# Altium schematic symbol library CNCLib.SchLib: 60 symbols
Pins are listed as number, name and electrical type; pins without a type are passive.

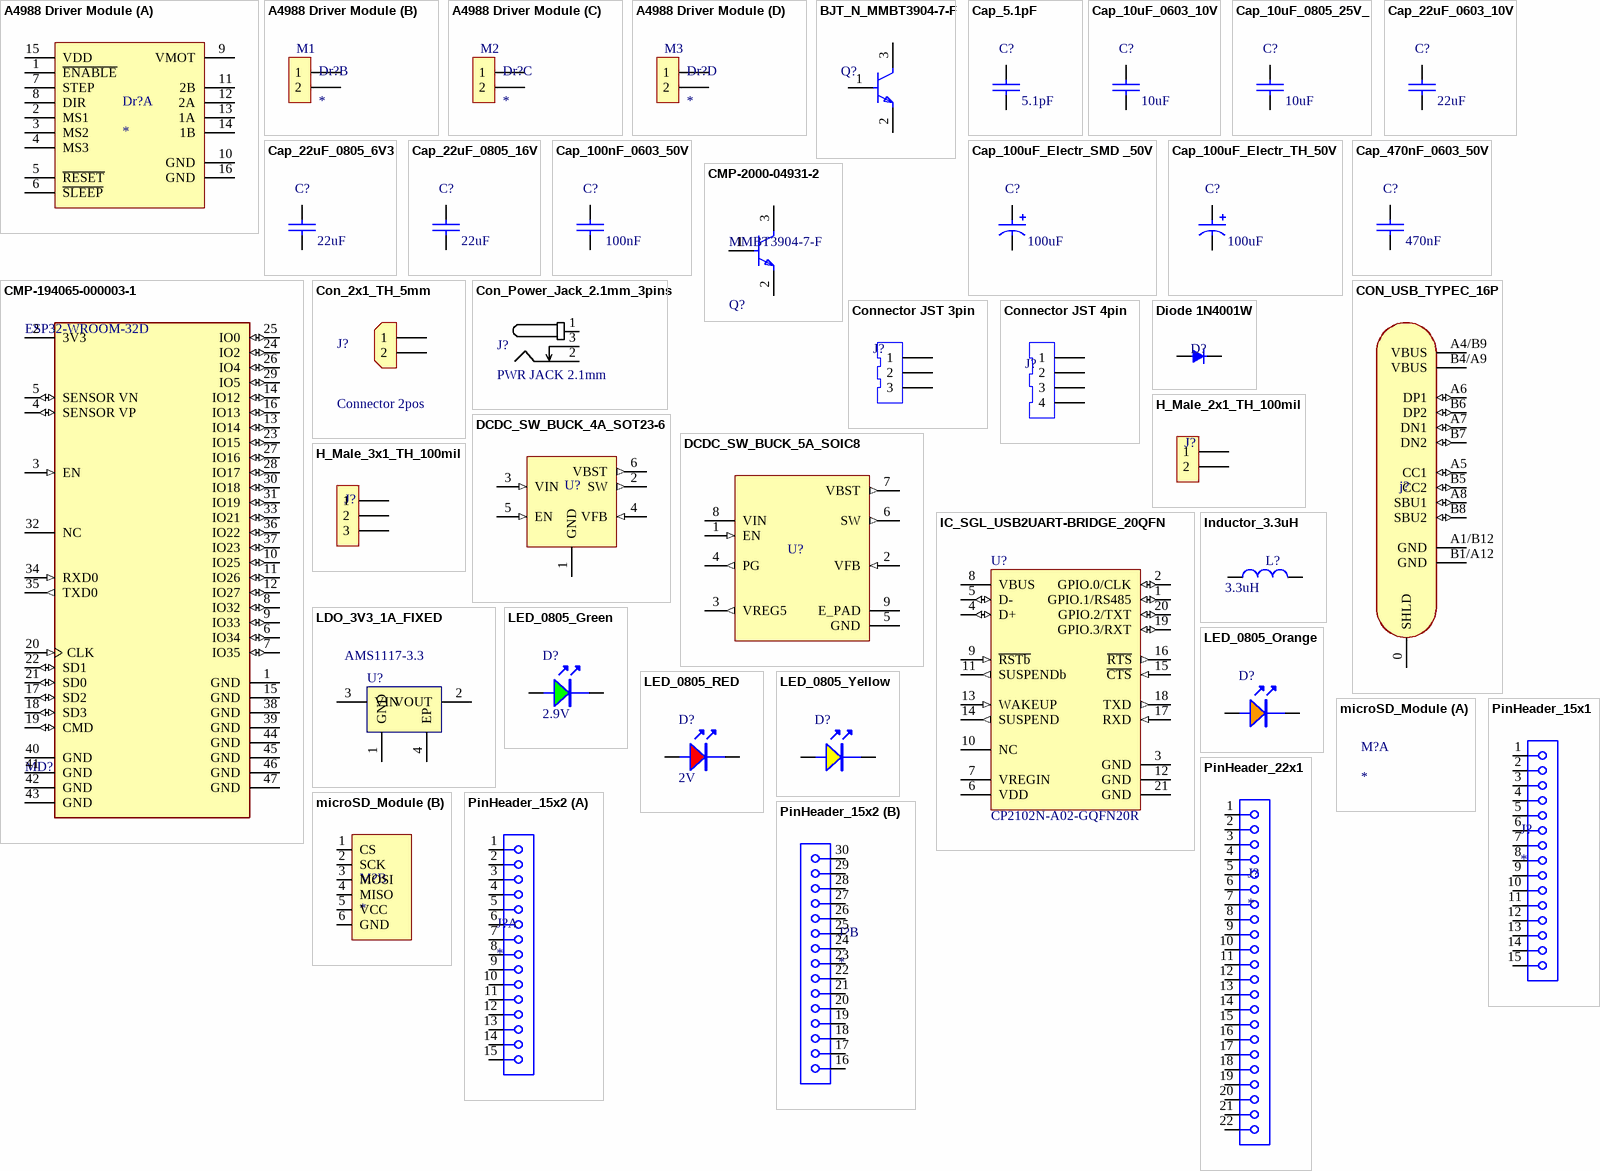
[diagram p0: symbols A4988 Driver Module to PinHeader_22x1]

## A4988 Driver Module
designator Dr?
footprint A4988 Module
part A pins: 1 ~{ENABLE}, 2 MS1, 3 MS2, 4 MS3, 5 ~{RESET}, 6 ~{SLEEP}, 7 STEP, 8 DIR, 9 VMOT, 10 GND, 11 2B, 12 2A, 13 1A, 14 1B, 15 VDD, 16 GND
part B pins: 17 1, 18 2
part C pins: 19 1, 20 2
part D pins: 21 1, 22 2
part B text: M1
part C text: M2
part D text: M3

## BJT_N_MMBT3904-7-F
designator Q?, comment TRANS NPN 40V 200mA SOT-23  (value not drawn)
40V 310mW 200mA NPN SOT-23 Single Bipolar Transistors RoHS; Manufacturer: DIODES; Manufacturer Part Number: MMBT3904-7-F; Supplier 1: LCSC; Supplier Part Number 1: C94514; ComponentLink1Description: LCSC; ComponentLink1URL: https://www.lcsc.com/product-detail/C94514.html?s_z=n_MMBT3904-7-F
footprint SOT_23_3
pins: 1 B, 2 E, 3 C

## Cap_5.1pF
designator C?, comment value 5.1pF  (hidden comment: CAP CER 5.1pF 50V NP0 0603)
50V 5.1pF NP0 0603 Ceramic Capacitors RoHS; Manufacturer: YAGEO; Manufacturer Part Number: CC0603CRNPO9BN5R1; Supplier 1: LCSC; Supplier Part Number 1: C519376; ComponentLink1Description: LCSC; ComponentLink1URL: https://www.lcsc.com/product-detail/C519376.html?s_z=n_5.1pF%2520capacitor
footprint 0603_cap
pins: 1, 2

## Cap_10uF_0603_10V
designator C?, comment value 10uF  (hidden comment: 10uF 10V)
10V 10uF X5R ±10% 0603 Multilayer Ceramic Capacitors MLCC - SMD/SMT ROHS; Manufacturer: CCTC; Manufacturer Part Number: TCC0603X5R106K100CT; Supplier 1: LCSC; Supplier Part Number 1: C380314; ComponentLink1Description: LCSC; ComponentLink1URL: https://www.lcsc.com/product-detail/Multilayer-Ceramic-Capacitors-MLCC-SMD-SMT_CCTC-TCC0603X5R106K100CT_C380314.html
footprint 0603_cap
pins: 1, 2

## Cap_10uF_0805_25V_
designator C?, comment value 10uF  (hidden comment: 10uF 25V)
25V 10uF X5R ±10% 0805 Multilayer Ceramic Capacitors MLCC - SMD/SMT ROHS; Manufacturer: Samsung Electro-Mechanics; Manufacturer Part Number: CL21A106KAYNNNE; Supplier 1: LCSC; Supplier Part Number 1: C15850; ComponentLink1Description: LCSC; ComponentLink1URL: https://lcsc.com/product-detail/Multilayer-Ceramic-Capacitors-MLCC-SMD-SMT_Samsung-Electro-Mechanics-CL21A106KAYNNNE_C15850.html
footprint 0805_cap
pins: 1, 2

## Cap_22uF_0603_10V
designator C?, comment value 22uF  (hidden comment: 22uF 10V)
10V 22uF X5R ±20% 0603 Multilayer Ceramic Capacitors MLCC - SMD/SMT ROHS; Manufacturer: HRE; Manufacturer Part Number: CGA0603X5R226M100JT; Supplier 1: LCSC; Supplier Part Number 1: C6119863; ComponentLink1Description: LCSC; ComponentLink1URL: https://lcsc.com/product-detail/Multilayer-Ceramic-Capacitors-MLCC-SMD-SMT_HRE-CGA0603X5R226M100JT_C6119863.html
footprint 0603_cap
pins: 1, 2

## Cap_22uF_0805_6V3
designator C?, comment value 22uF  (hidden comment: 22uF 6V3)
6.3V 22uF X5R ±20% 0805 Multilayer Ceramic Capacitors MLCC - SMD/SMT ROHS; Manufacturer: Samsung Electro-Mechanics; Manufacturer Part Number: CL21A226MQQNNNE; Supplier 1: LCSC; Supplier Part Number 1: C5674; ComponentLink1Description: LCSC; ComponentLink1URL: https://www.lcsc.com/product-detail/Multilayer-Ceramic-Capacitors-MLCC-SMD-SMT_Samsung-Electro-Mechanics-CL21A226MQQNNNE_C5674.html
footprint 0805_cap
pins: 1, 2

## Cap_22uF_0805_16V
designator C?, comment value 22uF  (hidden comment: 22uF 16V)
16V 22uF X5R ±20% 0805 Multilayer Ceramic Capacitors MLCC - SMD/SMT ROHS; Manufacturer: Chinocera; Manufacturer Part Number: HGC0805R5226M160NSLJ; Supplier 1: LCSC; Supplier Part Number 1: C33546008; ComponentLink1Description: LCSC; ComponentLink1URL: https://lcsc.com/product-detail/Multilayer-Ceramic-Capacitors-MLCC-SMD-SMT_Chinocera-HGC0805R5226M160NSLJ_C33546008.html
footprint 0805_cap
pins: 1, 2

## Cap_100nF_0603_50V
designator C?, comment value 100nF  (hidden comment: CAP CER 100nF 50V X7R 0603)
50V 100nF X7R ±10% 0603 Ceramic Capacitors RoHS; Manufacturer: FOJAN; Manufacturer Part Number: FCC0603B104K500CT; Supplier 1: LCSC; Supplier Part Number 1: C5137636; ComponentLink1Description: LCSC; ComponentLink1URL: https://www.lcsc.com/product-detail/C5137636.html
footprint 0603_cap
pins: 1, 2

## Cap_100uF_Electr_SMD _50V
designator C?, comment value 100uF  (hidden comment: CAP ALUM 100uF ±20% 50V SMD)
100uF 50V 340mΩ@100kHz ±20% 350mA@100kHz SMD,D6.3xL7.7mm Aluminum Electrolytic Capacitors RoHS; Manufacturer: NCC; Manufacturer Part Number: EMZR500ARA101MF80G; Supplier 1: LCSC; Supplier Part Number 1: C962164; ComponentLink1Description: LCSC; ComponentLink1URL: https://www.lcsc.com/product-detail/C962164.html?s_z=n_EMZR500ARA101MF80G
footprint CAP_MZR_F80_NIP
pins: 1, 2

## Cap_100uF_Electr_TH_50V
designator C?  value 100uF
Supplier 1: LCSC; ComponentLink1Description: LCSC
footprint CAP_TH
pins: 1, 2

## Cap_470nF_0603_50V
designator C?, comment value 470nF  (hidden comment: 470nF 50V)
50V 470nF X7R ±10% 0603 Multilayer Ceramic Capacitors MLCC - SMD/SMT ROHS; Manufacturer: Chinocera; Manufacturer Part Number: HGC0603R7474K500NTHJ; Supplier 1: LCSC; Supplier Part Number 1: C33546006; ComponentLink1Description: LCSC; ComponentLink1URL: https://lcsc.com/product-detail/Multilayer-Ceramic-Capacitors-MLCC-SMD-SMT_Chinocera-HGC0603R7474K500NTHJ_C33546006.html
footprint 0603_cap
pins: 1, 2

## CMP-2000-04931-2
designator Q?, comment MMBT3904-7-F
TRANS NPN 40V 0.2A SMD SOT23-3; Frequency: 300MHz; Power Dissipation: 350mW; Element Configuration: Single; Max Power Dissipation: 300mW; Max Collector Current: 200mA; Collector Emitter Saturation Voltage: 300mV; Number of Elements: 1; hFE Min: 100; Collector Base Voltage (VCBO): 60V; Emitter Base Voltage (VEBO): 6V; Contact Plating: Tin; Package Quantity: 3000; Max Frequency: 300MHz; REACH SVHC: No SVHC; Max Operating Temperature: 150°C; Width: 1.4mm; Collector Emitter Voltage (VCEO): 40V; Voltage Rating (DC): 40V; Radiation Hardening: No; Case/Package: SOT-23; Height: 1mm; Collector Emitter Breakdown Voltage: 40V; Length: 3.05mm; Polarity: NPN; Packaging: Tape and Reel; Number of Pins: 3; Min Operating Temperature: -55°C; Gain Bandwidth Product: 300MHz; Mount: Surface Mount; Weight: 0.000282oz; Continuous Collector Current: 200mA; Transition Frequency: 300MHz; Max Breakdown Voltage: 40V; Lead Free: Lead Free; ComponentLink1Description: New link; ComponentLink1URL: *
pins: 1 B, 2 E, 3 C

## CMP-194065-000003-1
designator MD?, comment ESP32-WROOM-32D
WIFI MODULE 32MBITS SPI FLASH; Manufacturer: ESPRESSIF; Manufacturer Part Number: ESP32-WROOM-32-N4; ComponentLink2URL: https://www.espressif.com/sites/default/files/documentation/esp32-wroom-32d_esp32-wroom-32u_datasheet_en.pdf; ComponentLink2Description: Datasheet; ComponentLink3Description: LCSC; ComponentLink3URL: https://www.lcsc.com/product-detail/C82899.html?s_z=n_ESP32%2520WROOM%2520N4; Supplier 1: LCSC; Supplier Part Number 1: C82899
footprint MOD_ESP32-WROOM-32_EXP
pins: 1 GND (power), 2 3V3 (power), 3 EN (in), 4 SENSOR VP (io), 5 SENSOR VN (io), 6 IO34 (io), 7 IO35 (io), 8 IO32 (io), 9 IO33 (io), 10 IO25 (io), 11 IO26 (io), 12 IO27 (io), 13 IO14 (io), 14 IO12 (io), 15 GND (power), 16 IO13 (io), 17 SD2 (io), 18 SD3 (io), 19 CMD (io), 20 CLK (in), 21 SD0 (io), 22 SD1 (io), 23 IO15 (io), 24 IO2 (io), 25 IO0 (io), 26 IO4 (io), 27 IO16 (io), 28 IO17 (io), 29 IO5 (io), 30 IO18 (io), 31 IO19 (io), 32 NC, 33 IO21 (io), 34 RXD0 (in), 35 TXD0 (out), 36 IO22 (io), 37 IO23 (io), 38 GND (power), 39 GND (power), 40 GND, 41 GND, 42 GND, 43 GND, 44 GND, 45 GND, 46 GND, 47 GND

## Con_2x1_TH_5mm
designator J?, comment Connector 2pos
2POS 5MM; Manufacturer: JILN; Manufacturer Part Number: JL126-50002G01; Supplier 1: LCSC; Supplier Part Number 1: C394556; ComponentLink1Description: Digi-Key; ComponentLink1URL: https://www.lcsc.com/product-detail/Screw-terminal_JILN-JL126-50002G01_C394556.html
footprint CON_2x1_TH_5MM
pins: 1, 2

## Con_Power_Jack_2.1mm_3pins
designator J?, comment PWR JACK 2.1mm
CONN PWR JACK 2X5.5MM SOLDER; Manufacturer: HCTL; Manufacturer Part Number: HC-DC-005-2.0T; Supplier 1: LCSC; Supplier Part Number 1: C3010533; ComponentLink1Description: LCSC; ComponentLink1URL: https://www.lcsc.com/product-detail/AC-DC-Power-Connectors_HCTL-HC-DC-005-2-0T_C3010533.html
footprint CON_POWER_BARREL_2.1MM_3CONN (/ 20190222 / C-A.Serna.A)
pins: 1, 2, 3

## CON_USB_TYPEC_16P
designator j?, comment USB C  (value not drawn)
3A USB 3.1 1 Surface Mount 16P Female -40℃~+85℃ Type-C SMD USB Connectors ROHS; Manufacturer: SHOU HAN; Manufacturer Part Number: TYPE-C-3.1-16PIN; Supplier 1: LCSC; Supplier Part Number 1: C7507405; ComponentLink1Description: LCSC; ComponentLink1URL: https://lcsc.com/product-detail/USB-Connectors_SHOU-HAN-TYPE-C-3-1-16PIN_C7507405.html
footprint CON_USB_C_16P_RA
pins: 0 SHLD, A1/B12 GND (power), A4/B9 VBUS (power), A5 CC1 (io), A6 DP1 (io), A7 DN1 (io), A8 SBU1 (io), B1/A12 GND (power), B4/A9 VBUS (power), B5 CC2 (io), B6 DP2 (io), B7 DN2 (io), B8 SBU2 (io)

## Connector JST 3pin
designator J?, comment CONN HEADER TH 3POS 2.5mm  (value not drawn)
3P 1x3P XH Tin -25℃~+85℃ White 2.5mm 250V 3 3A 1 Through Hole Through Hole,P=2.5mm Headers, Male Pins RoHS; Manufacturer: JST; Manufacturer Part Number: B3B-XH-A(LF)(SN); Supplier 1: LCSC; Supplier Part Number 1: C144394; ComponentLink1Description: LCSC; ComponentLink1URL: https://www.lcsc.com/product-detail/C144394.html?s_z=n_JST%2520b3
footprint JST_B3B-XH-A
pins: 1, 2, 3

## Connector JST 4pin
designator J?, comment CONN HEADER TH 4POS 2.5mm  (value not drawn)
4P XH 1x4P Tin -25℃~+85℃ White 2.5mm 250V 4 3A 1 Through Hole Through Hole,P=2.5mm Headers, Male Pins RoHS; Manufacturer: JST; Manufacturer Part Number: B4B-XH-A(LF)(SN); Supplier 1: LCSC; Supplier Part Number 1: C144395; ComponentLink1Description: LCSC; ComponentLink1URL: https://www.lcsc.com/product-detail/C144395.html?s_z=n_JST%2520b4b
footprint JST_B4B-XH-A
pins: 1, 2, 3, 4

## DCDC_SW_BUCK_4A_SOT23-6
designator U?, comment TPS564201DDCR  (value not drawn)
IC REG BUCK ADJ 4A SOT23; Manufacturer: Texas Instruments; Manufacturer Part Number: TPS564201DDCR; Supplier 1: LCSC; Supplier Part Number 1: C464812; ComponentLink1Description: LCSC; ComponentLink1URL: https://lcsc.com/product-detail/DC-DC-Converters_Texas-Instruments-TPS564201DDCR_C464812.html
footprint SOT_23_6 (/ 20190225 / V-A.Patino)
pins: 1 GND (power), 2 SW (out), 3 VIN (in), 4 VFB (in), 5 EN (in), 6 VBST (out)

## DCDC_SW_BUCK_5A_SOIC8
designator U?, comment TPS56528DDAR  (value not drawn)
IC REG BUCK ADJ 5A 8SOPWR; Manufacturer: Texas Instruments; Manufacturer Part Number: TPS56528DDAR; Supplier 1: LCSC; Supplier Part Number 1: C138716; ComponentLink1Description: LCSC; ComponentLink1URL: https://lcsc.com/product-detail/DC-DC-Converters_Texas-Instruments-TPS56528DDAR_C138716.html
footprint SOIC_8_3.9mm_EP
pins: 1 EN (in), 2 VFB (in), 3 VREG5 (out), 4 PG (out), 5 GND (power), 6 SW (out), 7 VBST (out), 8 VIN (power), 9 E_PAD (power)

## Diode 1N4001W
designator D?, comment DIODE STANDARD 50V 1A SOD-123F  (value not drawn)
25A Independent 50V 1.1V@1A 1A SOD-123F Single Diodes RoHS; Manufacturer: YONGYUTAI; Manufacturer Part Number: 1N4001W; Supplier 1: LCSC; Supplier Part Number 1: C2944152; ComponentLink1Description: LCSC; ComponentLink1URL: https://www.lcsc.com/product-detail/C2944152.html
footprint SOD-123FL_MCC
pins: 1 ANODE, 2 CATHODE

## H_Male_2x1_TH_100mil
designator J?, comment 2x1  (value not drawn)  (no BOM)
H_Male_2x1_TH_100mil; ComponentLink1Description: LCSC
footprint H_2x1_TH_100mil
pins: 1, 2

## H_Male_3x1_TH_100mil
designator J?, comment 3x1  (value not drawn)  (no BOM)
H_Male_3x1_TH_100mil; ComponentLink1Description: LCSC
footprint H_3X1_TH_100mil
pins: 1, 2, 3

## IC_SGL_USB2UART-BRIDGE_20QFN
designator U?, comment CP2102N-A02-GQFN20R
IC USB TO UART BRIDGE QFN20; Manufacturer: Silicon Labs; Manufacturer Part Number: CP2102N-A02-GQFN20R; Supplier 1: LCSC; Supplier Part Number 1: C969913; ComponentLink1Description: LCSC; ComponentLink1URL: https://www.lcsc.com/product-detail/USB-ICs_SILICON-LABS-CP2102N-A02-GQFN20R_C969913.html
footprint WFQFN_20_EP_3X3MM (QFN_20/ 20210809/ V-A.Patino)
pins: 1 GPIO.1/RS485 (io), 2 GPIO.0/CLK (io), 3 GND (power) "Ground", 4 D+ (io) "USB Data Positive", 5 D- (io) "USB Data Negative", 6 VDD (power) "Supply Power Input/5V Regulator Output", 7 VREGIN (power) "5V Regulator Input", 8 VBUS (power) "Digital Input. VBUS Sense Input. This pin should be connected to the VBUS signal of a USBnetwork. A 5 V signal on this pin indicates a USB network connection", 9 ~{RSTb} (in) "Active-low Reset", 10 NC "No Connect (leave this pin floating)", 11 SUSPENDb (out) "Digital Output. This pin is driven low when the device enters the USB suspend state.", 12 GND (power) "Ground", 13 WAKEUP (in) "Digital Input. Remote USB wakeup interrupt input.", 14 SUSPEND (out) "Digital Output. This pin is driven high when the device enters the USB suspend state", 15 ~{CTS} (in) "Digital Input. Clear To Send control input (active low).", 16 ~{RTS} (out) "Digital Output. Ready To Send control output (active low).", 17 RXD (in) "Digital Input. Asynchronous data input (UART Receive).", 18 TXD (out) "Digital Output. Asynchronous data output (UART Transmit)", 19 GPIO.3/RXT (io), 20 GPIO.2/TXT (io), 21 GND (power) "Ground"

## Inductor_3.3uH
designator L?, comment value 3.3uH  (hidden comment: FIXED IND 3.3uH 2.6A 0.052Ω SMD,4x4mm)
2.6A 3.3uH Magnetic Shielded Inductor ±20% 3.6A 52mΩ SMD,4x4mm Fixed Inductors RoHS; Manufacturer: cjiang; Manufacturer Part Number: FNR4030S3R3MT; Supplier 1: LCSC; Supplier Part Number 1: C167870; ComponentLink1Description: LCSC; ComponentLink1URL: https://www.lcsc.com/product-detail/C167870.html?s_z=n_3.3uH%2520inductor
footprint Inductor_3_3uH
pins: 1, 2

## LDO_3V3_1A_FIXED
designator U?, comment AMS1117-3.3
1A 60dB@(120Hz) Fixed 3.3V Positive 18V SOT-223 Linear Voltage Regulators (LDO) ROHS; Manufacturer: UMW(Youtai Semiconductor Co., Ltd.); ComponentLink1Description: LCSC; ComponentLink1URL: https://www.lcsc.com/product-detail/_UMW-Youtai-Semiconductor-Co-Ltd-_C347222.html; Supplier 1: LCSC; Manufacturer Part Number: AMS1117-3.3; Supplier Part Number 1: C347222
footprint SOT_223 (TO-261-4, TO-261AA / 20190829 / M-X.Arias)
pins: 1 GND, 2 VOUT, 3 VIN, 4 EP

## LED_0805_Green
designator D?, comment 2.9V
LED GREEN CLEAR 0805 SMD; Manufacturer: XINGLIGHT; Manufacturer Part Number: XL-2012UGC; Supplier 1: LCSC; Supplier Part Number 1: C965815; ComponentLink1Description: LCSC; ComponentLink1URL: https://www.lcsc.com/product-detail/Light-Emitting-Diodes-LED_XINGLIGHT-XL-2012UGC_C965815.html
footprint 0805_LED
pins: 1 A, 2

## LED_0805_Orange
designator D?, comment 2.3V  (value not drawn)
LED ORANGE WATER CLEAR 0805 SMD; Manufacturer: XINGLIGHT; Manufacturer Part Number: XL-2012UOC; Supplier 1: LCSC; Supplier Part Number 1: C965813; ComponentLink1Description: LCSC; ComponentLink1URL: https://www.lcsc.com/product-detail/C965813.html?s_z=n_XINGLIGHT%2520XL-2012
footprint 0805_LED
pins: 1 A, 2

## LED_0805_RED
designator D?, comment 2V
LED RED CLEAR 0805 SMD; Manufacturer: XINGLIGHT; Manufacturer Part Number: XL-2012SURC; Supplier 1: LCSC; Supplier Part Number 1: C965812; ComponentLink1Description: LCSC; ComponentLink1URL: https://www.lcsc.com/product-detail/Light-Emitting-Diodes-LED_XINGLIGHT-XL-2012SURC_C965812.html
footprint 0805_LED
pins: 1 A, 2

## LED_0805_Yellow
designator D?, comment 2.3V  (value not drawn)
20mA 535mcd 585nm~595nm op View Mount Yellow 2.3V 50mW 0805 LED Indication - Discrete RoHS; Manufacturer: XINGLIGHT; Manufacturer Part Number: XL-2012UYC; Supplier 1: LCSC; Supplier Part Number 1: C965813; ComponentLink1Description: LCSC; ComponentLink1URL: https://www.lcsc.com/product-detail/C965814.html?s_z=n_XINGLIGHT%2520XL-2012
footprint 0805_LED
pins: 1 A, 2

## microSD_Module
designator M?
footprint MicroSD_Module_Vertical
footprint MicroSD_Module_Horizontal
part B pins: 1 CS, 2 SCK, 3 MOSI, 4 MISO, 5 VCC, 6 GND

## PinHeader_15x1
designator J?
footprint PinHead_15x1
pins: 1, 2, 3, 4, 5, 6, 7, 8, 9, 10, 11, 12, 13, 14, 15

## PinHeader_15x2
designator J?
footprint PinHead_15x2
part A pins: 1, 2, 3, 4, 5, 6, 7, 8, 9, 10, 11, 12, 13, 14, 15
part B pins: 16, 17, 18, 19, 20, 21, 22, 23, 24, 25, 26, 27, 28, 29, 30

## PinHeader_22x1
designator J?
footprint PinHead_22x1
pins: 1, 2, 3, 4, 5, 6, 7, 8, 9, 10, 11, 12, 13, 14, 15, 16, 17, 18, 19, 20, 21, 22

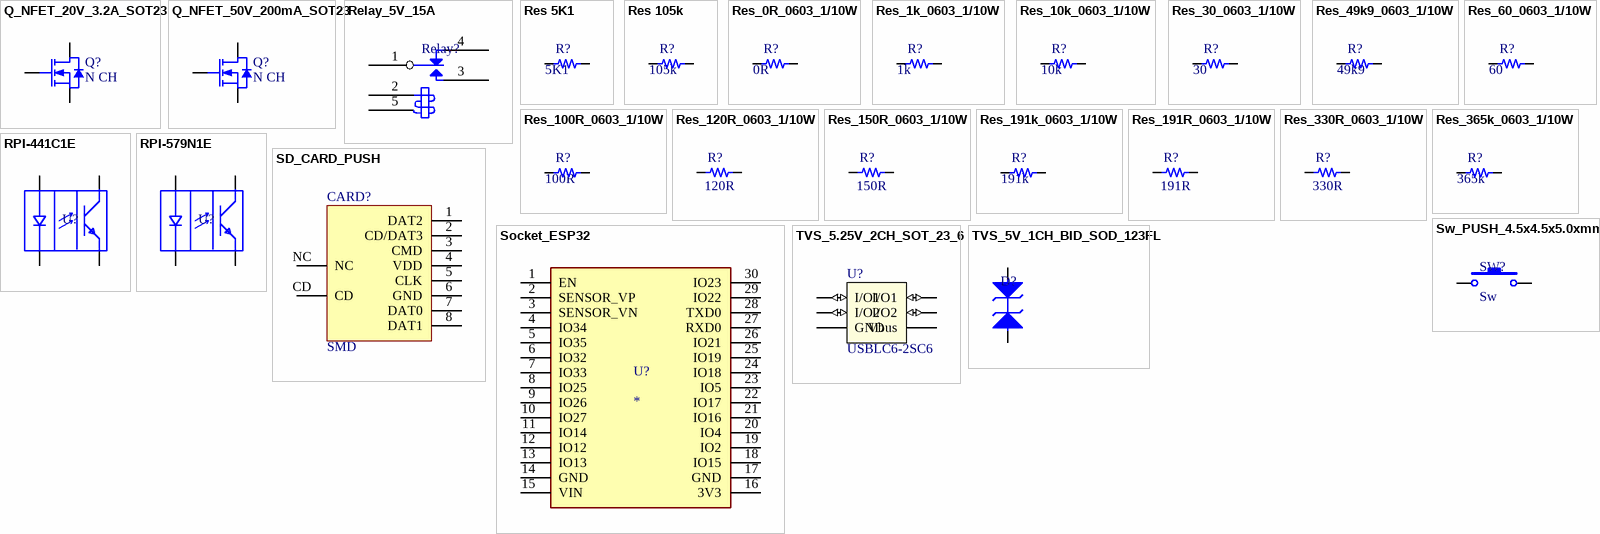
[diagram p1: symbols Q_NFET_20V_3.2A_SOT23 to TVS_5V_1CH_BID_SOD_123FL]

## Q_NFET_20V_3.2A_SOT23
designator Q?, comment N CH
MOSFET N-CH 20V SOT23; Manufacturer: Doeshare; Manufacturer Part Number: DN2302S; Supplier 1: LCSC; Supplier Part Number 1: C2931750; ComponentLink1Description: LCSC; ComponentLink1URL: https://www.lcsc.com/product-detail/MOSFETs_Doeshare-DN2302S_C2931750.html
footprint SOT_23_3 (TO-236-3, SC-59/ 20220901 / V-A.Patino)
pins: 1 G, 2 S, 3 D

## Q_NFET_50V_200mA_SOT23
designator Q?, comment N CH
MOSFET N-CH 50V 200mA SOT-23; Manufacturer: onsemi; Manufacturer Part Number: BSS138LT1G; Supplier 1: LCSC; Supplier Part Number 1: C82045; ComponentLink1Description: LCSC; ComponentLink1URL: https://www.lcsc.com/product-detail/C82045.html
footprint SOT_23_3 (TO-236-3, SC-59/ 20220901 / V-A.Patino)
pins: 1 G, 2 S, 3 D

## Relay_5V_15A
designator Relay?, comment V_15A  (value not drawn)
250V@AC 5V 15A 1 Form C: 1C (SPDT-CO) Plugin,15.6x19.2mm Power Relays ROHS; Manufacturer: Ningbo Songle Relay; Manufacturer Part Number: SRD-05VDC-SL-C; Supplier 1: LCSC; Supplier Part Number 1: C35449; ComponentLink1Description: LCSC; ComponentLink1URL: https://lcsc.com/product-detail/Power-Relays_Ningbo-Songle-Relay-SRD-05VDC-SL-C_C35449.html
footprint Relay_5V_15A
pins: 1, 2, 3, 4, 5

## Res 5K1
designator R?, comment value 5K1  (hidden comment: RES 5.1kΩ ±1% 100mW 0603)
100mW 5.1kΩ 75V ±100ppm/℃ Thick Film Resistor ±1% 0603 Chip Resistor - Surface Mount RoHS; Manufacturer: FOJAN; Manufacturer Part Number: FRC0603F5101TS; ComponentLink1URL: https://www.lcsc.com/product-detail/C2907044.html?s_z=n_5.1k%2520resistor; Supplier 1: LCSC; Supplier Part Number 1: C2907044; ComponentLink1Description: LCSC
footprint 0603_res (1608 Metric / 20190225 / C-A.Serna.A)
pins: 1, 2

## Res 105k
designator R?  value 105k
100mW 105kΩ 75V ±25ppm/℃ Thin Film Resistor ±0.5% 0603 Chip Resistor - Surface Mount RoHS; Manufacturer: YAGEO; Manufacturer Part Number: RT0603DRD07105KL; ComponentLink1URL: https://www.lcsc.com/product-detail/C862523.html; Supplier 1: LCSC; Supplier Part Number 1: C862523; ComponentLink1Description: LCSC
footprint 0603_res (1608 Metric / 20190225 / C-A.Serna.A)
pins: 1, 2

## Res_0R_0603_1/10W
designator R?, comment value 0R  (hidden comment: 0R 1/10W)
RES SMD 0R OHM 5% 1/10W 0603; Manufacturer: FOJAN; Manufacturer Part Number: FRC0603P000 TS; ComponentLink1URL: https://www.lcsc.com/product-detail/Chip-Resistor-Surface-Mount_FOJAN-FRC0603P000-TS_C2907080.html; Supplier 1: LCSC; Supplier Part Number 1: C2907080; ComponentLink1Description: LCSC
footprint 0603_res (1608 Metric / 20190225 / C-A.Serna.A)
pins: 1, 2

## Res_1k_0603_1/10W
designator R?, comment value 1k  (hidden comment: 1k 1/10W)
RES SMD 1k OHM 5% 1/10W 0603; Manufacturer: FOJAN; Manufacturer Part Number: FRC0603J102 TS; ComponentLink1URL: https://www.lcsc.com/product-detail/Chip-Resistor-Surface-Mount_FOJAN-FRC0603J102-TS_C2907113.html; Supplier 1: LCSC; Supplier Part Number 1: C2907113; ComponentLink1Description: LCSC
footprint 0603_res (1608 Metric / 20190225 / C-A.Serna.A)
pins: 1, 2

## Res_10k_0603_1/10W
designator R?, comment value 10k  (hidden comment: 10k 1/10W)
RES SMD 10k OHM 5% 1/10W 0603; Manufacturer: FOJAN; Manufacturer Part Number: FRC0603J103TS; ComponentLink1URL: https://www.lcsc.com/product-detail/Chip-Resistor-Surface-Mount_FOJAN-FRC0603J103TS_C2930027.html; Supplier 1: LCSC; Supplier Part Number 1: C2930027; ComponentLink1Description: LCSC
footprint 0603_res (1608 Metric / 20190225 / C-A.Serna.A)
pins: 1, 2

## Res_30_0603_1/10W
designator R?, comment value 30  (hidden comment: RES 30Ω ±5% 100mW 0603)
100mW 30Ω 75V ±100ppm/℃ Thick Film Resistor ±5% 0603 Chip Resistor - Surface Mount RoHS; Manufacturer: FOJAN; Manufacturer Part Number: FRC0603J300 TS; ComponentLink1URL: https://www.lcsc.com/product-detail/Chip-Resistor-Surface-Mount_FOJAN-FRC0603J102-TS_C2907113.html; Supplier 1: LCSC; Supplier Part Number 1: C2907150; ComponentLink1Description: LCSC
footprint 0603_res (1608 Metric / 20190225 / C-A.Serna.A)
pins: 1, 2

## Res_49k9_0603_1/10W
designator R?, comment value 49k9  (hidden comment: 49k9 1/10W)
100mW Thick Film Resistor 75V ±100ppm/℃ ±1% 49.9kΩ 0603 Chip Resistor - Surface Mount ROHS; Manufacturer: YAGEO; Manufacturer Part Number: RC0603FR-0749K9L; ComponentLink1URL: https://lcsc.com/product-detail/Chip-Resistor-Surface-Mount_YAGEO-RC0603FR-0749K9L_C114624.html; Supplier 1: LCSC; Supplier Part Number 1: C114624; ComponentLink1Description: LCSC
footprint 0603_res (1608 Metric / 20190225 / C-A.Serna.A)
pins: 1, 2

## Res_60_0603_1/10W
designator R?, comment value 60  (hidden comment: RES 60Ω ±1% 100mW 0603)
100mW 60Ω 75V ±100ppm/℃ Thick Film Resistor ±1% 0603 Chip Resistor - Surface Mount RoHS; Manufacturer: RALEC; Manufacturer Part Number: RTT0360R0FTP; ComponentLink1URL: https://www.lcsc.com/product-detail/Chip-Resistor-Surface-Mount_FOJAN-FRC0603J102-TS_C2907113.html; Supplier 1: LCSC; Supplier Part Number 1: C166918; ComponentLink1Description: LCSC
footprint 0603_res (1608 Metric / 20190225 / C-A.Serna.A)
pins: 1, 2

## Res_100R_0603_1/10W
designator R?, comment value 100R  (hidden comment: 100R 1/10W)
RES SMD 100R OHM 5% 1/10W 0603; Manufacturer: FOJAN; Manufacturer Part Number: FRC0603J101 TS; ComponentLink1URL: https://www.lcsc.com/product-detail/Chip-Resistor-Surface-Mount_FOJAN-FRC0603J101-TS_C2907089.html; Supplier 1: LCSC; Supplier Part Number 1: C2907089; ComponentLink1Description: LCSC
footprint 0603_res (1608 Metric / 20190225 / C-A.Serna.A)
pins: 1, 2

## Res_120R_0603_1/10W
designator R?, comment value 120R  (hidden comment: 120R 1/10W)
100mW Thick Film Resistor 75V ±100ppm/℃ ±1% 120Ω 0603 Chip Resistor - Surface Mount ROHS; Manufacturer: FOJAN; Manufacturer Part Number: FRC0603F1200TS; ComponentLink1URL: https://lcsc.com/product-detail/Chip-Resistor-Surface-Mount_FOJAN-FRC0603F1200TS_C2906988.html; Supplier 1: LCSC; Supplier Part Number 1: C2906988; ComponentLink1Description: LCSC
footprint 0603_res (1608 Metric / 20190225 / C-A.Serna.A)
pins: 1, 2

## Res_150R_0603_1/10W
designator R?, comment value 150R  (hidden comment: 150R 1/10W)
100mW Thick Film Resistor 75V ±100ppm/℃ ±1% 150Ω 0603 Chip Resistor - Surface Mount ROHS; Manufacturer: RALEC; Manufacturer Part Number: RTT031500FTP; ComponentLink1URL: https://lcsc.com/product-detail/Chip-Resistor-Surface-Mount_RALEC-RTT031500FTP_C103302.html; Supplier 1: LCSC; Supplier Part Number 1: C103302; ComponentLink1Description: LCSC
footprint 0603_res (1608 Metric / 20190225 / C-A.Serna.A)
pins: 1, 2

## Res_191k_0603_1/10W
designator R?, comment value 191k  (hidden comment: 191k 1/10W)
100mW Thick Film Resistor 75V ±100ppm/℃ ±1% 191kΩ 0603 Chip Resistor - Surface Mount ROHS; Manufacturer: YAGEO; Manufacturer Part Number: AC0603FR-07191KL; ComponentLink1URL: https://lcsc.com/product-detail/Chip-Resistor-Surface-Mount_YAGEO-AC0603FR-07191KL_C227635.html; Supplier 1: LCSC; Supplier Part Number 1: C227635; ComponentLink1Description: LCSC
footprint 0603_res (1608 Metric / 20190225 / C-A.Serna.A)
pins: 1, 2

## Res_191R_0603_1/10W
designator R?, comment value 191R  (hidden comment: 191R 1/10W)
100mW Thick Film Resistor 75V ±100ppm/℃ ±1% 191Ω 0603 Chip Resistor - Surface Mount ROHS; Manufacturer: FOJAN; Manufacturer Part Number: FRC0603F1910TS; ComponentLink1URL: https://lcsc.com/product-detail/Chip-Resistor-Surface-Mount_FOJAN-FRC0603F1910TS_C3000718.html; Supplier 1: LCSC; Supplier Part Number 1: C3000718; ComponentLink1Description: LCSC
footprint 0603_res (1608 Metric / 20190225 / C-A.Serna.A)
pins: 1, 2

## Res_330R_0603_1/10W
designator R?, comment value 330R  (hidden comment: 330R 1/10W)
RES SMD 330R OHM 5% 1/10W 0603; Manufacturer: FOJAN; Manufacturer Part Number: FRC0603J331 TS; ComponentLink1URL: https://www.lcsc.com/product-detail/Chip-Resistor-Surface-Mount_FOJAN-FRC0603J331-TS_C2907152.html; Supplier 1: LCSC; Supplier Part Number 1: C2907152; ComponentLink1Description: LCSC
footprint 0603_res (1608 Metric / 20190225 / C-A.Serna.A)
pins: 1, 2

## Res_365k_0603_1/10W
designator R?, comment value 365k  (hidden comment: 365k 1/10W)
100mW Thick Film Resistor 75V ±100ppm/℃ ±1% 365kΩ 0603 Chip Resistor - Surface Mount ROHS; Manufacturer: YAGEO; Manufacturer Part Number: RC0603FR-07365KL; ComponentLink1URL: https://lcsc.com/product-detail/Chip-Resistor-Surface-Mount_YAGEO-RC0603FR-07365KL_C185336.html; Supplier 1: LCSC; Supplier Part Number 1: C185336; ComponentLink1Description: LCSC
footprint 0603_res (1608 Metric / 20190225 / C-A.Serna.A)
pins: 1, 2

## RPI-441C1E
designator U?, comment SENSOR OPT SLOT PHOTOTRAN PCB MT  (value not drawn)
850nm 1.4V DIP-4 Photointerrupters - Slot Type - Transistor Output RoHS; Manufacturer: ROHM; Manufacturer Part Number: RPI-441C1E; Supplier 1: LCSC; Supplier Part Number 1: C919442; ComponentLink1Description: LCSC; ComponentLink1URL: https://www.lcsc.com/product-detail/C919442.html?s_z=n_RPI-441C1
footprint RPI-441C1E
pins: 1 CATHODE, 2 ANODE, 3 COLLECTOR, 4 EMISOR

## RPI-579N1E
designator U?, comment SENSOR OPT SLOT PHOTOTRAN PCB MT  (value not drawn)
Optical Sensor Through-Beam 0.197" (5mm) Phototransistor PCB Mount; Manufacturer: Rohm Semiconductor; Manufacturer Part Number: RPI-579N1E; Supplier 1: Digi-key; Supplier Part Number 1: 846-1022-ND; ComponentLink1Description: Digi-key; ComponentLink1URL: https://www.digikey.com/en/products/detail/rohm-semiconductor/RPI-579N1E/2408205?s=N4IgTCBcDaIEoAUCSBaArAdgJwDkCMAoiALoC%2BQA; ComponentLink2Description: Mouser; ComponentLink2URL: https://co.mouser.com/ProductDetail/ROHM-Semiconductor/RPI-579N1E?qs=U%2FDGNQcZ28oAsNHreilnOw%3D%3D
footprint RPI-441C1E
pins: 1 CATHODE, 2 ANODE, 3 COLLECTOR, 4 EMISOR

## SD_CARD_PUSH
designator CARD?, comment SMD
Push-Push 2mm Connector and Ejector MicroSD Card (TF Card) SMD PC Card Sockets RoHS; Manufacturer: Yuandi; Manufacturer Part Number: TF-01A; Supplier 1: LCSC; Supplier Part Number 1: C2889258; ComponentLink1Description: LCSC; ComponentLink1URL: https://www.lcsc.com/product-detail/C2889258.html?s_z=n_TF-01A_C2889258
footprint SD_CARD_PUSH_PCB
pins: 1 DAT2 "DATE LINE(BIT2)", 2 CD/DAT3 "CARD DETECT DATE LIN(BIT3)", 3 CMD "COMMAND RESPONSE", 4 VDD "SUPPLY VOLTAGE", 5 CLK "CLOCK", 6 GND, 7 DAT0 "DATE LINE (BIT0)", 8 DAT1 "DATE LINE(BIT1)", CD "DATE LINE(BIT1)", NC "DATE LINE(BIT1)"

## Socket_ESP32
designator U?
footprint Socket_ESP32
pins: 1 EN, 2 SENSOR_VP, 3 SENSOR_VN, 4 IO34, 5 IO35, 6 IO32, 7 IO33, 8 IO25, 9 IO26, 10 IO27, 11 IO14, 12 IO12, 13 IO13, 14 GND, 15 VIN, 16 3V3, 17 GND, 18 IO15, 19 IO2, 20 IO4, 21 IO16, 22 IO17, 23 IO5, 24 IO18, 25 IO19, 26 IO21, 27 RXD0, 28 TXD0, 29 IO22, 30 IO23

## Sw_PUSH_4.5x4.5x5.0xmm
designator SW?, comment Sw
SWITCH TACTILE SPST-NO 0.05A 12V; Manufacturer: BZCN; Manufacturer Part Number: TSC015A05026A; Supplier 1: LCSC; Supplier Part Number 1: C2888509; Last modified by: N-A.Potosi; Last modified date: 20190222; ComponentLink1Description: LCSC; ComponentLink1URL: https://www.lcsc.com/product-detail/Tactile-Switches_BZCN-TSC015A05026A_C2888509.html
footprint Sw_PUSH_4.5x4.5x5mm
pins: 1, 2

## TVS_5.25V_2CH_SOT_23_6
designator U?, comment USBLC6-2SC6
TVS DIODE 5.25V 17V SOT23-6; Manufacturer: STMicroelectronics; ComponentLink1Description: LCSC; ComponentLink1URL: https://www.lcsc.com/product-detail/ESD-Protection-Devices_STMicroelectronics-USBLC6-2SC6_C7519.html; Supplier 1: LCSC; Manufacturer Part Number: USBLC6-2SC6; Supplier Part Number 1: C7519
footprint SOT_23_6 (/ 20190225 / V-A.Patino)
pins: 1 I/O1 (io), 2 GND (power), 3 I/O2 (io), 4 I/O2 (io), 5 Vbus (power), 6 I/O1 (io)

## TVS_5V_1CH_BID_SOD_123FL
designator D?, comment TVS 12V  (value not drawn)
21.7A 200W@10/1000us 9.2V 7V Bidirectional 5V SOD-123FL ESD and Surge Protection (TVS/ESD) ROHS; Manufacturer: TDSEMIC; Manufacturer Part Number: SMF5.0CA; Supplier 1: LCSC; Supplier Part Number 1: C46956338; ComponentLink1Description: LCSC; ComponentLink1URL: https://lcsc.com/product-detail/ESD-and-Surge-Protection-TVS-ESD_TDSEMIC-SMF5-0CA_C46956338.html
footprint SOD_123FL
pins: 1, 2